# Altium footprint library Inductor_SMD.PcbLib: 37 footprints (part 3 of 3)
Each footprint in its own frame and in the unit in brackets; x right, y up, seen from the top. Pads: shape width x height; smd on the part's side, far side on the other; paste and mask are expansions set on the pad; w line width, h text height; cw(c..) or ccw(c..) is an arc to the next point about the centre after c.
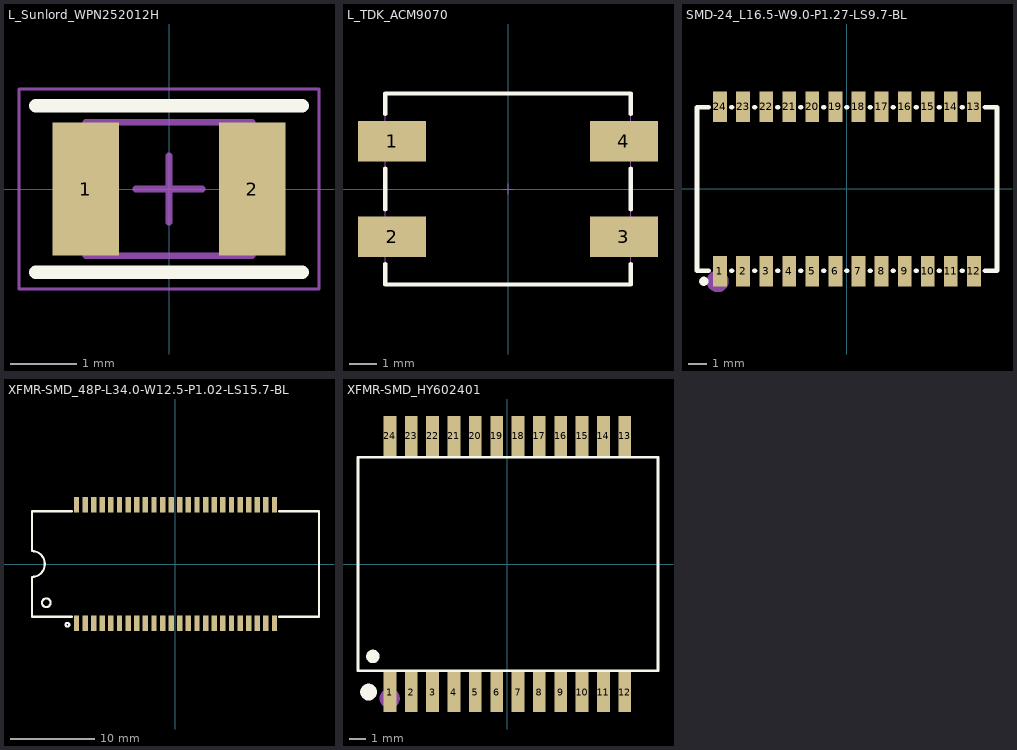
[diagram p2: the footprints below, top view; thin cyan lines are the x and y axes]

## L_Sunlord_WPN252012H [mm] "Precision Wire Wound Inductor, 2-Leads, Body 2.50x2.00mm, IPC Medium Density"
height 2
pads (2):
  rect 1x2 smd: 1(-1.25,0) 2(1.25,0)
Top Overlay:
  lines w0.2: -2,-1.25 2,-1.25 ; -2,1.25 2,1.25
Mechanical 13:
  lines w0.1: -1.25,-1 1.25,-1 1.25,1 -1.25,1 -1.25,-1
Mechanical 15:
  lines w0.05: -2.25,-1.5 2.25,-1.5 2.25,1.5 -2.25,1.5 -2.25,-1.5
  lines w0.1: -0.5,0 0.5,0 ; 0,-0.5 0,0.5
3D body "User Library-INDM2520X190N.STEP": height 1.8, standoff 0, extent -1.25,-1 1.25,1

## L_TDK_ACM9070 [mm]
pads (4):
  rect 2.5x1.5 smd: 1(-4.25,1.75) 2(-4.25,-1.75) 3(4.25,-1.75) 4(4.25,1.75)
Top Overlay:
  lines w0.152: -4.5,-2.75 -4.5,-3.5 4.5,-3.5 4.5,-2.75 ; -4.5,-0.75 -4.5,0.75 ; -4.5,2.75 -4.5,3.5 4.5,3.5 4.5,2.75 ; 4.5,-0.75 4.5,0.75
Mechanical 13:
  lines w0.013: -4.5,-3.5 -4.5,3.5 4.5,3.5 4.5,-3.5 -4.5,-3.5
Mechanical 15:
  lines w0.013: -0.2,0 0.2,0 ; 0,-0.2 0,0.2
3D body: height 4.5, standoff 0, extent -4.5,-3.5 4.5,3.5

## SMD-24_L16.5-W9.0-P1.27-LS9.7-BL [mm]
pads (24):
  rect 0.76x1.7 smd: 1(-6.985,-4.525) 2(-5.715,-4.525) 3(-4.445,-4.525) 4(-3.175,-4.525) 5(-1.905,-4.525) 6(-0.635,-4.525) 7(0.635,-4.525) 8(1.905,-4.525) 9(3.175,-4.525) 10(4.445,-4.525) 11(5.715,-4.525) 12(6.985,-4.525) 13(6.985,4.525) 14(5.715,4.525) 15(4.445,4.525) 16(3.175,4.525) 17(1.905,4.525) 18(0.635,4.525) 19(-0.635,4.525) 20(-1.905,4.525) 21(-3.175,4.525) 22(-4.445,4.525) 23(-5.715,4.525) 24(-6.985,4.525)
Top Overlay:
  circle w0.254: c-7.874,-5.08 r0.127
  lines w0.254: -7.596,-4.5 -8.25,-4.5 -8.25,4.5 -7.596,4.5 ; -6.374,-4.5 -6.326,-4.5 ; -6.374,4.5 -6.326,4.5 ; -5.104,-4.5 -5.056,-4.5 ; -5.104,4.5 -5.056,4.5 ; -3.834,-4.5 -3.786,-4.5 ; -3.834,4.5 -3.786,4.5 ; -2.564,-4.5 -2.516,-4.5 ; -2.564,4.5 -2.516,4.5 ; -1.294,-4.5 -1.246,-4.5 ; -1.294,4.5 -1.246,4.5 ; -0.024,-4.5 0.024,-4.5 ; -0.024,4.5 0.024,4.5 ; 1.246,-4.5 1.294,-4.5 ; 1.246,4.5 1.294,4.5 ; 2.516,-4.5 2.564,-4.5 ; 2.516,4.5 2.564,4.5 ; 3.786,-4.5 3.834,-4.5 ; 3.786,4.5 3.834,4.5 ; 5.056,-4.5 5.104,-4.5 ; 5.056,4.5 5.104,4.5 ; 6.326,-4.5 6.374,-4.5 ; 6.326,4.5 6.374,4.5 ; 7.596,-4.5 8.255,-4.5 8.255,4.5 7.596,4.5
Mechanical 15:
  circle w0.6: c-7.112,-5.08 r0.3
3D body "L1.stp": height 2.5, standoff 0, extent -8.25,-4.85 8.25,4.85

## XFMR-SMD_48P-L34.0-W12.5-P1.02-LS15.7-BL [mm]
pads (48):
  rect 0.64x1.845 smd: 1(-11.73,-7.018) 2(-10.71,-7.018) 3(-9.69,-7.018) 4(-8.67,-7.018) 5(-7.65,-7.018) 6(-6.63,-7.018) 7(-5.61,-7.018) 8(-4.59,-7.018) 9(-3.57,-7.018) 10(-2.55,-7.018) 11(-1.53,-7.018) 12(-0.51,-7.018) 13(0.51,-7.018) 14(1.53,-7.018) 15(2.55,-7.018) 16(3.57,-7.018) 17(4.59,-7.018) 18(5.61,-7.018) 19(6.63,-7.018) 20(7.65,-7.018) 21(8.67,-7.018) 22(9.69,-7.018) 23(10.71,-7.018) 24(11.73,-7.017) 25(11.73,7.018) 26(10.71,7.018) 27(9.69,7.018) 28(8.67,7.018) 29(7.65,7.018) 30(6.63,7.018) 31(5.61,7.018) 32(4.59,7.018) 33(3.57,7.018) 34(2.55,7.018) 35(1.53,7.018) 36(0.51,7.018) 37(-0.51,7.018) 38(-1.53,7.018) 39(-2.55,7.018) 40(-3.57,7.018) 41(-4.59,7.018) 42(-5.61,7.018) 43(-6.63,7.018) 44(-7.65,7.018) 45(-8.67,7.018) 46(-9.69,7.018) 47(-10.71,7.018) 48(-11.73,7.018)
Top Overlay:
  circle w0.254: c-15.3,-4.59 r0.51
  circle w0.254: c-12.8,-7.2 r0.224
  lines w0.254: -12.281,-6.25 -17,-6.25 -17,-1.53 ccw(c-17.006,0) -17,1.53 -17,6.25 -12.281,6.25 ; 12.281,-6.25 17,-6.25 17,6.25 12.281,6.25
3D body: height 10.1, standoff 0, extent -17,-6.25 17,6.25

## XFMR-SMD_HY602401 [mil]
pads (24):
  rect 30x94.49 smd: 1(-275,-300) 2(-225,-300) 3(-175,-300) 4(-125,-300) 5(-75,-300) 6(-25,-300) 7(25,-300) 8(75,-300) 9(125,-300) 10(175,-300) 11(225,-300) 12(275,-300) 13(275,300) 14(225,300) 15(175,300) 16(125,300) 17(75,300) 18(25,300) 19(-25,300) 20(-75,300) 21(-125,300) 22(-175,300) 23(-225,300) 24(-275,300)
Top Overlay:
  circle w19.68: c-325,-300 r9.84
  circle w15.75: c-314.96,-216.54 r7.87
  lines w5.91: -349.8,-250 352.95,-250 352.95,250 -325,250 -349.8,250 -349.8,-250
Mechanical 15:
  circle w23.62: c-275.59,-314.96 r11.81
3D body "L1.stp": height 244.09, standoff 0, extent -360.23,-314.96 360.24,314.96